# EAGLE library part MEGA328P (library avrs)
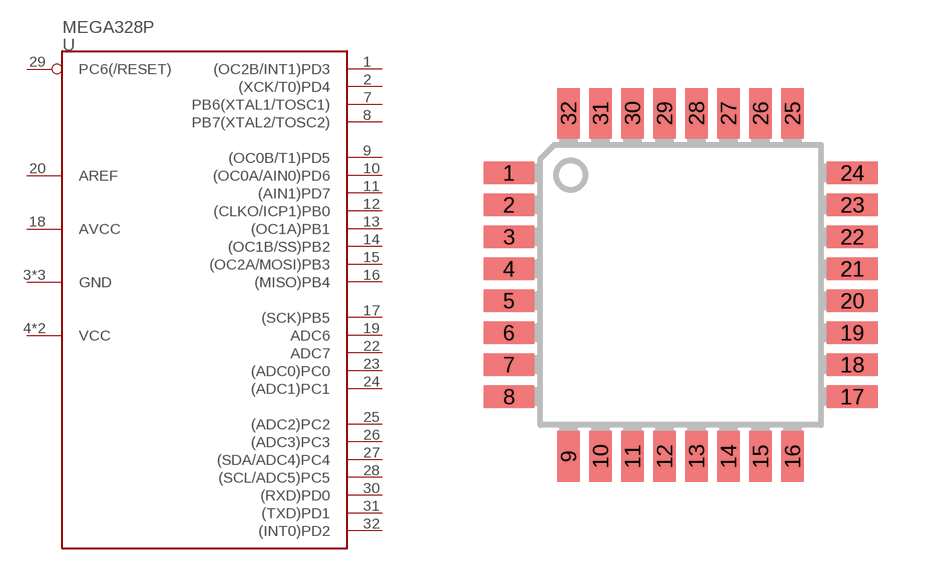
[diagram p11: symbol with the pads of TQFP32-08; footprint TQFP32-08]

Designator prefix -

## MEGA328P  [TQFP32-08]
1  (OC2B/INT1)PD3
2  (XCK/T0)PD4
3  GND
4  VCC
5  GND
6  VCC
7  PB6(XTAL1/TOSC1)
8  PB7(XTAL2/TOSC2)
9  (OC0B/T1)PD5
10  (OC0A/AIN0)PD6
11  (AIN1)PD7
12  (CLKO/ICP1)PB0
13  (OC1A)PB1
14  (OC1B/SS)PB2
15  (OC2A/MOSI)PB3
16  (MISO)PB4
17  (SCK)PB5
18  AVCC
19  ADC6
20  AREF
21  GND
22  ADC7
23  (ADC0)PC0
24  (ADC1)PC1
25  (ADC2)PC2
26  (ADC3)PC3
27  (SDA/ADC4)PC4
28  (SCL/ADC5)PC5
29  PC6(/RESET)
30  (RXD)PD0
31  (TXD)PD1
32  (INT0)PD2

## Footprint TQFP32-08 (pad centres in mm)
smd 1.27 x 0.559: 1 -4.293,2.8; 2 -4.293,2; 3 -4.293,1.2; 4 -4.293,0.4; 5 -4.293,-0.4; 6 -4.293,-1.2; 7 -4.293,-2; 8 -4.293,-2.8; 17 4.293,-2.8; 18 4.293,-2; 19 4.293,-1.2; 20 4.293,-0.4; 21 4.293,0.4; 22 4.293,1.2; 23 4.293,2; 24 4.293,2.8
smd 0.559 x 1.27: 9 -2.8,-4.293; 10 -2,-4.293; 11 -1.2,-4.293; 12 -0.4,-4.293; 13 0.4,-4.293; 14 1.2,-4.293; 15 2,-4.293; 16 2.8,-4.293; 25 2.8,4.293; 26 2,4.293; 27 1.2,4.293; 28 0.4,4.293; 29 -0.4,4.293; 30 -1.2,4.293; 31 -2,4.293; 32 -2.8,4.293